# Altium footprint library sucaiku.PcbLib: 28 footprints (part 2 of 2)
Each footprint in its own frame and in the unit in brackets; x right, y up, seen from the top. Pads: shape width x height; smd on the part's side, far side on the other; paste and mask are expansions set on the pad; w line width, h text height; cw(c..) or ccw(c..) is an arc to the next point about the centre after c.
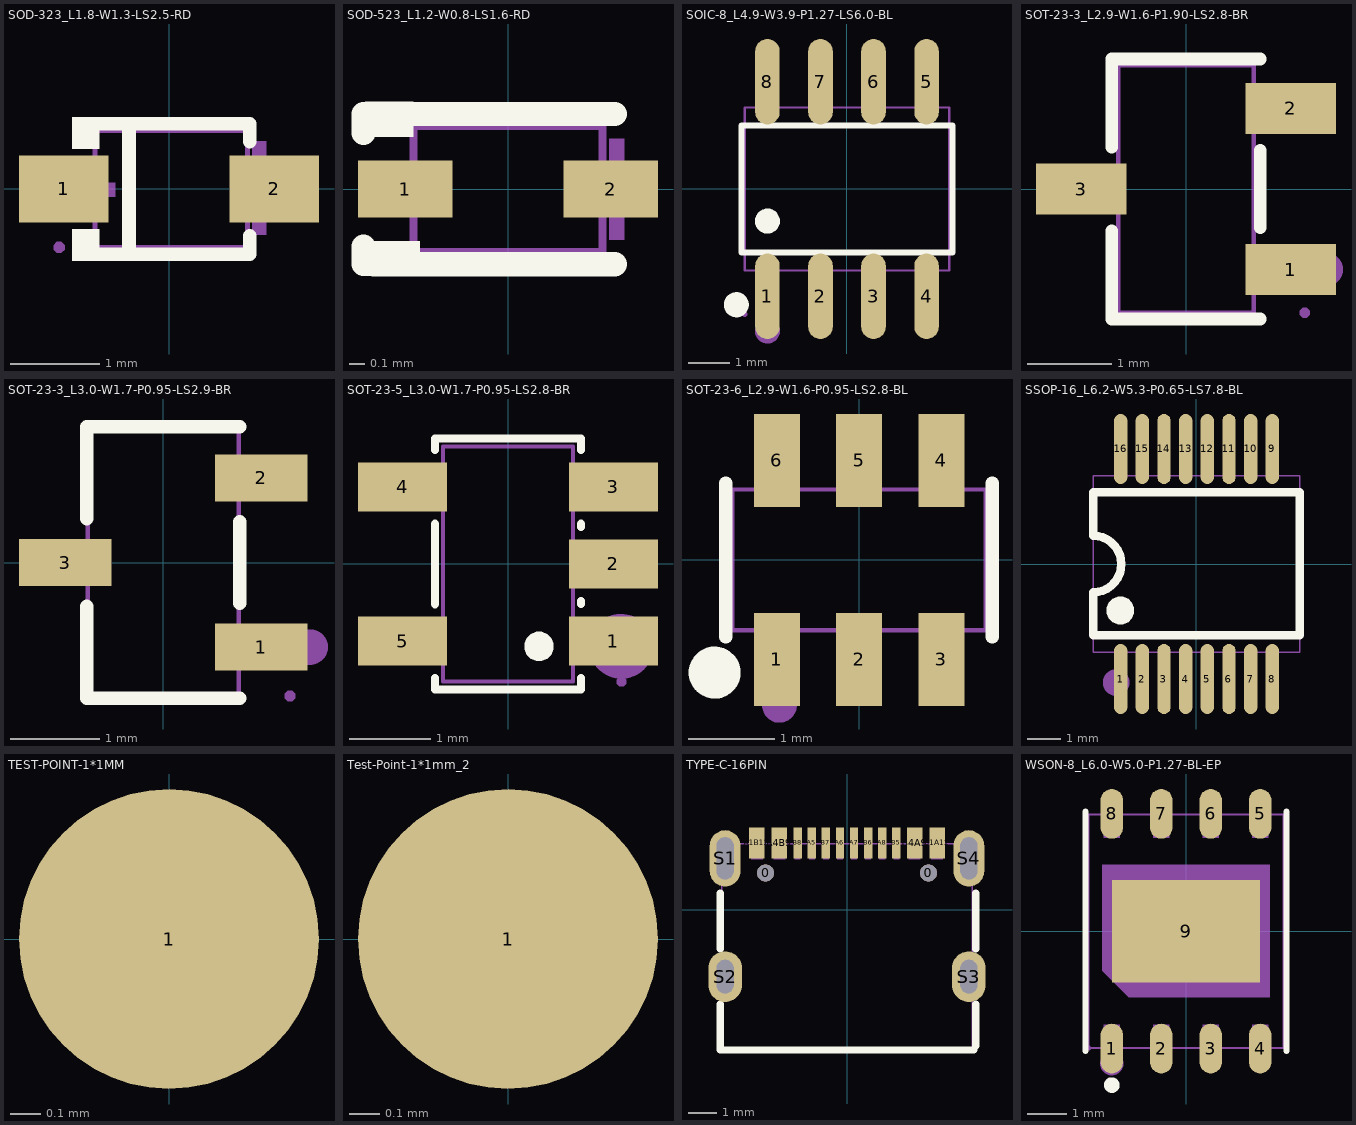
[diagram p1: the footprints below, top view; thin cyan lines are the x and y axes]

## SOD-323_L1.8-W1.3-LS2.5-RD [mm]
pads (2):
  rect 1x0.75 smd paste+0.051: 1(-1.173,0) 2(1.173,0)
Top Overlay:
  region: -0.775,-0.802 -0.775,-0.45 -1.08,-0.45 -1.08,-0.802
  region: -0.775,0.802 -0.775,0.45 -1.08,0.45 -1.08,0.802
  lines w0.152: -0.851,-0.726 0.901,-0.726 0.901,-0.52 ; -0.851,0.726 0.901,0.726 0.901,0.53 ; -0.447,-0.726 -0.447,0.726
Mechanical 6:
  region: 1.083,0.53 1.083,-0.51 0.927,-0.51 0.927,0.53
  region: 1.315,0.09 1.315,-0.066 0.691,-0.066 0.691,0.09
  region: -1.225,0.07 -1.225,-0.086 -0.601,-0.086 -0.601,0.07
Mechanical 7:
  lines w0.051: -0.825,-0.65 -0.825,0.65 0.875,0.65 0.875,-0.65 -0.825,-0.65
Mechanical 8:
  region: -1.165,-0.65 -1.165,-0.675 -1.2,-0.71 -1.25,-0.71 -1.285,-0.675 -1.285,-0.65 -1.285,-0.625 -1.25,-0.59 -1.2,-0.59 -1.165,-0.625 -1.165,-0.65
Mechanical 9:
  region: -0.925,0.16 -0.925,-0.16 -1.225,-0.16 -1.225,0.16
  region: 1.275,0.16 1.275,-0.16 0.975,-0.16 0.975,0.16
Mechanical 10:
  region: -0.815,0.16 -0.815,-0.16 -0.935,-0.16 -0.935,0.16
  region: 0.985,0.16 0.985,-0.16 0.865,-0.16 0.865,0.16

## SOD-523_L1.2-W0.8-LS1.6-RD [mm]
pads (2):
  rect 0.6x0.36 smd paste+0.051: 1(-0.65,0) 2(0.65,0)
Top Overlay:
  region: -0.6,0.552 -0.6,0.332 -0.905,0.332 -0.905,0.552
  region: -0.56,-0.552 -0.56,-0.332 -0.864,-0.332 -0.864,-0.552
  lines w0.152: -0.914,-0.363 -0.914,-0.476 -0.676,-0.476 0.676,-0.476 ; -0.914,0.356 -0.914,0.476 -0.676,0.476 0.676,0.476
Mechanical 6:
  region: -0.887,0.055 -0.887,-0.041 -0.503,-0.041 -0.503,0.055
  region: 0.88,0.048 0.88,-0.048 0.496,-0.048 0.496,0.048
  region: 0.736,0.32 0.736,-0.32 0.64,-0.32 0.64,0.32
Mechanical 7:
  lines w0.051: -0.6,-0.4 -0.6,0.4 0.6,0.4 0.6,-0.4 -0.6,-0.4
Mechanical 8:
  region: -0.74,-0.4 -0.74,-0.425 -0.775,-0.46 -0.825,-0.46 -0.86,-0.425 -0.86,-0.4 -0.86,-0.375 -0.825,-0.34 -0.775,-0.34 -0.74,-0.375 -0.74,-0.4
Mechanical 9:
  region: -0.4,-0.15 -0.8,-0.15 -0.8,0.15 -0.4,0.15
  region: 0.8,-0.15 0.4,-0.15 0.4,0.15 0.8,0.15

## SOIC-8_L4.9-W3.9-P1.27-LS6.0-BL [mm]
pads (8):
  oval 0.588x2.045 smd paste+0.051: 1(-1.905,-2.57) 2(-0.635,-2.57) 3(0.635,-2.57) 4(1.905,-2.57) 5(1.905,2.57) 6(0.635,2.57) 7(-0.635,2.57) 8(-1.905,2.57)
Top Overlay:
  circle w0.3: c-1.905,-0.769 r0.15
  circle w0.3: c-2.652,-2.772 r0.15
  lines w0.152: -2.526,-1.521 -2.526,1.521 2.526,1.521 2.526,-1.521 -2.526,-1.521
Mechanical 6:
  circle w0.3: c-1.905,-3.4 r0.15
Mechanical 7:
  lines w0.051: -2.45,-1.95 -2.45,1.95 2.45,1.95 2.45,-1.95 -2.45,-1.95
Mechanical 8:
  region: -2.39,-3 -2.39,-3.025 -2.425,-3.06 -2.475,-3.06 -2.51,-3.025 -2.51,-3 -2.51,-2.975 -2.475,-2.94 -2.425,-2.94 -2.39,-2.975 -2.39,-3
Mechanical 9:
  region: -2.115,-3 -2.115,-2.165 -1.695,-2.165 -1.695,-3
  region: -0.845,-3 -0.845,-2.165 -0.425,-2.165 -0.425,-3
  region: 0.425,-3 0.425,-2.165 0.845,-2.165 0.845,-3
  region: 1.695,-3 1.695,-2.165 2.115,-2.165 2.115,-3
  region: -2.115,3 -2.115,2.165 -1.695,2.165 -1.695,3
  region: -0.845,3 -0.845,2.165 -0.425,2.165 -0.425,3
  region: 0.425,3 0.425,2.165 0.845,2.165 0.845,3
  region: 1.695,3 1.695,2.165 2.115,2.165 2.115,3
Mechanical 10:
  region: -2.115,-2.175 -2.115,-1.94 -1.695,-1.94 -1.695,-2.175
  region: -0.845,-2.175 -0.845,-1.94 -0.425,-1.94 -0.425,-2.175
  region: 0.425,-2.175 0.425,-1.94 0.845,-1.94 0.845,-2.175
  region: 1.695,-2.175 1.695,-1.94 2.115,-1.94 2.115,-2.175
  region: -2.115,2.175 -2.115,1.94 -1.695,1.94 -1.695,2.175
  region: -0.845,2.175 -0.845,1.94 -0.425,1.94 -0.425,2.175
  region: 0.425,2.175 0.425,1.94 0.845,1.94 0.845,2.175
  region: 1.695,2.175 1.695,1.94 2.115,1.94 2.115,2.175

## SOT-23-3_L2.9-W1.6-P1.90-LS2.8-BR [mm]
pads (3):
  rect 1.07x0.6 smd paste+0.051: 1(1.235,-0.95) 2(1.235,0.95) 3(-1.235,0)
Top Overlay:
  lines w0.152: -0.876,-0.495 -0.876,-1.536 0.876,-1.536 ; -0.876,0.495 -0.876,1.536 0.876,1.536 ; 0.876,-0.455 0.876,0.455
Mechanical 6:
  circle w0.2: c1.651,-0.95 r0.1
Mechanical 7:
  lines w0.051: -0.8,-1.46 0.8,-1.46 0.8,1.46 -0.8,1.46 -0.8,-1.46
Mechanical 8:
  region: 1.46,-1.46 1.46,-1.485 1.425,-1.52 1.375,-1.52 1.34,-1.485 1.34,-1.46 1.34,-1.435 1.375,-1.4 1.425,-1.4 1.46,-1.435 1.46,-1.46
Mechanical 9:
  region: -0.95,-0.2 -0.95,0.2 -1.4,0.2 -1.4,-0.2
  region: 0.95,0.75 0.95,1.15 1.4,1.15 1.4,0.75
  region: 0.95,-1.15 0.95,-0.75 1.4,-0.75 1.4,-1.15
Mechanical 10:
  region: -0.96,-0.2 -0.96,0.2 -0.79,0.2 -0.79,-0.2
  region: 0.79,0.75 0.79,1.15 0.96,1.15 0.96,0.75
  region: 0.79,-1.15 0.79,-0.75 0.96,-0.75 0.96,-1.15

## SOT-23-3_L3.0-W1.7-P0.95-LS2.9-BR [mm]
pads (3):
  rect 1.037x0.532 smd paste+0.051: 1(1.101,-0.95) 2(1.101,0.95) 3(-1.101,0)
Top Overlay:
  lines w0.152: -0.859,-0.495 -0.859,-1.526 0.859,-1.526 ; -0.859,0.495 -0.859,1.526 0.859,1.526 ; 0.859,-0.455 0.859,0.455
Mechanical 6:
  circle w0.2: c1.65,-0.95 r0.1
Mechanical 7:
  lines w0.051: -0.85,-1.5 -0.85,1.5 0.85,1.5 0.85,-1.5 -0.85,-1.5
Mechanical 8:
  region: 1.485,-1.5 1.485,-1.525 1.45,-1.56 1.4,-1.56 1.365,-1.525 1.365,-1.5 1.365,-1.475 1.4,-1.44 1.45,-1.44 1.485,-1.475 1.485,-1.5
Mechanical 9:
  region: 1,-1.137 1,-0.762 1.425,-0.762 1.425,-1.137
  region: 1,0.762 1,1.137 1.425,1.137 1.425,0.762
  region: -1.425,-0.187 -1.425,0.188 -1,0.188 -1,-0.188
Mechanical 10:
  region: 0.815,-1.137 0.815,-0.762 1.01,-0.762 1.01,-1.137
  region: 0.815,0.762 0.815,1.137 1.01,1.137 1.01,0.762
  region: -1.01,-0.188 -1.01,0.188 -0.815,0.188 -0.815,-0.188

## SOT-23-5_L3.0-W1.7-P0.95-LS2.8-BR [mm]
pads (5):
  rect 1.1x0.6 smd paste+0.051: 1(1.3,-0.95) 2(1.3,0) 3(1.3,0.95) 4(-1.3,0.95) 5(-1.3,-0.95)
Top Overlay:
  region: 0.204,-1.016 0.204,-0.981 0.23,-0.915 0.28,-0.864 0.346,-0.837 0.416,-0.837 0.482,-0.864 0.532,-0.915 0.558,-0.981 0.558,-1.016 0.558,-1.051 0.532,-1.117 0.482,-1.168 0.416,-1.195 0.346,-1.195 0.28,-1.168 0.23,-1.117 0.204,-1.051 0.204,-1.016
  lines w0.1: -0.9,-1.404 -0.9,-1.55 0.9,-1.55 0.9,-1.404 ; -0.9,-0.496 -0.9,0.496 ; -0.9,1.404 -0.9,1.55 0.9,1.55 0.9,1.404 ; 0.9,-0.496 0.9,-0.454 ; 0.9,0.454 0.9,0.496
Mechanical 6:
  circle w0.4: c1.397,-1.016 r0.2
Mechanical 7:
  lines w0.051: -0.8,-1.45 0.8,-1.45 0.8,1.45 -0.8,1.45 -0.8,-1.45
Mechanical 8:
  region: 1.46,-1.45 1.46,-1.475 1.425,-1.51 1.375,-1.51 1.34,-1.475 1.34,-1.45 1.34,-1.425 1.375,-1.39 1.425,-1.39 1.46,-1.425 1.46,-1.45
Mechanical 9:
  region: 0.95,-1.15 0.95,-0.75 1.4,-0.75 1.4,-1.15
  region: 0.95,-0.2 0.95,0.2 1.4,0.2 1.4,-0.2
  region: 0.95,0.75 0.95,1.15 1.4,1.15 1.4,0.75
  region: -1.4,0.75 -1.4,1.15 -0.95,1.15 -0.95,0.75
  region: -1.4,-1.15 -1.4,-0.75 -0.95,-0.75 -0.95,-1.15
Mechanical 10:
  region: 0.79,-1.15 0.79,-0.75 0.96,-0.75 0.96,-1.15
  region: 0.79,-0.2 0.79,0.2 0.96,0.2 0.96,-0.2
  region: 0.79,0.75 0.79,1.15 0.96,1.15 0.96,0.75
  region: -0.96,0.75 -0.96,1.15 -0.79,1.15 -0.79,0.75
  region: -0.96,-1.15 -0.96,-0.75 -0.79,-0.75 -0.79,-1.15

## SOT-23-6_L2.9-W1.6-P0.95-LS2.8-BL [mm]
pads (6):
  rect 0.532x1.072 smd paste+0.051: 1(-0.95,-1.149) 2(0,-1.149) 3(0.95,-1.149) 4(0.95,1.149) 5(0,1.149) 6(-0.95,1.149)
Top Overlay:
  circle w0.3: c-1.668,-1.301 r0.15
  lines w0.152: -1.539,-0.889 -1.539,0.889 ; 1.539,-0.889 1.539,0.889
Mechanical 6:
  circle w0.2: c-0.92,-1.68 r0.1
Mechanical 7:
  lines w0.051: -1.463,-0.813 1.463,-0.813 1.463,0.813 -1.463,0.813 -1.463,-0.813
Mechanical 8:
  region: -1.403,-1.4 -1.403,-1.425 -1.438,-1.46 -1.488,-1.46 -1.523,-1.425 -1.523,-1.4 -1.523,-1.375 -1.488,-1.34 -1.438,-1.34 -1.403,-1.375 -1.403,-1.4
Mechanical 9:
  region: -1.165,-0.925 -0.735,-0.925 -0.735,-1.4 -1.165,-1.4
  region: -0.215,-0.925 0.215,-0.925 0.215,-1.4 -0.215,-1.4
  region: 0.735,-0.925 1.165,-0.925 1.165,-1.4 0.735,-1.4
  region: 0.735,0.925 1.165,0.925 1.165,1.4 0.735,1.4
  region: -0.215,0.925 0.215,0.925 0.215,1.4 -0.215,1.4
  region: -1.165,0.925 -0.735,0.925 -0.735,1.4 -1.165,1.4
Mechanical 10:
  region: -1.165,-0.803 -0.735,-0.803 -0.735,-0.935 -1.165,-0.935
  region: -0.215,-0.803 0.215,-0.803 0.215,-0.935 -0.215,-0.935
  region: 0.735,-0.803 1.165,-0.803 1.165,-0.935 0.735,-0.935
  region: 0.735,0.935 1.165,0.935 1.165,0.803 0.735,0.803
  region: -0.215,0.935 0.215,0.935 0.215,0.803 -0.215,0.803
  region: -1.165,0.935 -0.735,0.935 -0.735,0.803 -1.165,0.803

## SSOP-16_L6.2-W5.3-P0.65-LS7.8-BL [mm]
pads (16):
  oval 0.4x2.1 smd paste+0.051: 1(-2.275,-3.45) 2(-1.625,-3.45) 3(-0.975,-3.45) 4(-0.325,-3.45) 5(0.325,-3.45) 6(0.975,-3.45) 7(1.625,-3.45) 8(2.275,-3.45) 9(2.275,3.45) 10(1.625,3.45) 11(0.975,3.45) 12(0.325,3.45) 13(-0.325,3.45) 14(-0.975,3.45) 15(-1.625,3.45) 16(-2.275,3.45)
Top Overlay:
  region: -2.697,-1.397 -2.697,-1.315 -2.634,-1.164 -2.519,-1.049 -2.368,-0.986 -2.204,-0.986 -2.053,-1.049 -1.938,-1.164 -1.875,-1.315 -1.875,-1.397 -1.875,-1.479 -1.938,-1.63 -2.053,-1.745 -2.204,-1.808 -2.368,-1.808 -2.519,-1.745 -2.634,-1.63 -2.697,-1.479 -2.697,-1.397
  lines w0.254: -3.1,-2.14 3.1,-2.14 3.1,2.153 -3.1,2.153 -3.1,0.85 cw(c-3.104,0) -3.099,-0.851 -3.099,-2.14
Mechanical 6:
  circle w0.4: c-2.413,-3.556 r0.2
Mechanical 7:
  lines w0.051: -3.1,-2.65 -3.1,2.65 3.1,2.65 3.1,-2.65 -3.1,-2.65
Mechanical 8:
  region: -2.099,-1.524 -2.099,-1.549 -2.134,-1.584 -2.184,-1.584 -2.219,-1.549 -2.219,-1.524 -2.219,-1.499 -2.184,-1.464 -2.134,-1.464 -2.099,-1.499 -2.099,-1.524
Mechanical 9:
  region: 0.2,3.3 0.2,3.9 0.45,3.9 0.45,3.3
  region: 0.85,3.3 0.85,3.9 1.1,3.9 1.1,3.3
  region: 1.5,3.3 1.5,3.9 1.75,3.9 1.75,3.3
  region: 2.15,3.3 2.15,3.9 2.4,3.9 2.4,3.3
  region: -0.45,3.3 -0.45,3.9 -0.2,3.9 -0.2,3.3
  region: -1.1,3.3 -1.1,3.9 -0.85,3.9 -0.85,3.3
  region: -1.75,3.3 -1.75,3.9 -1.5,3.9 -1.5,3.3
  region: -2.4,-3.9 -2.4,-3.3 -2.15,-3.3 -2.15,-3.9
  region: -1.75,-3.9 -1.75,-3.3 -1.5,-3.3 -1.5,-3.9
  region: -1.1,-3.9 -1.1,-3.3 -0.85,-3.3 -0.85,-3.9
  region: -0.45,-3.9 -0.45,-3.3 -0.2,-3.3 -0.2,-3.9
  region: 0.2,-3.9 0.2,-3.3 0.45,-3.3 0.45,-3.9
  region: 0.85,-3.9 0.85,-3.3 1.1,-3.3 1.1,-3.9
  region: 1.5,-3.9 1.5,-3.3 1.75,-3.3 1.75,-3.9
  region: 2.15,-3.9 2.15,-3.3 2.4,-3.3 2.4,-3.9
  region: -2.4,3.3 -2.4,3.9 -2.15,3.9 -2.15,3.3
Mechanical 10:
  region: 0.2,2.64 0.2,3.31 0.45,3.31 0.45,2.64
  region: 0.85,2.64 0.85,3.31 1.1,3.31 1.1,2.64
  region: 1.5,2.64 1.5,3.31 1.75,3.31 1.75,2.64
  region: 2.15,2.64 2.15,3.31 2.4,3.31 2.4,2.64
  region: -0.45,2.64 -0.45,3.31 -0.2,3.31 -0.2,2.64
  region: -1.1,2.64 -1.1,3.31 -0.85,3.31 -0.85,2.64
  region: -1.75,2.64 -1.75,3.31 -1.5,3.31 -1.5,2.64
  region: -2.4,-3.31 -2.4,-2.64 -2.15,-2.64 -2.15,-3.31
  region: -1.75,-3.31 -1.75,-2.64 -1.5,-2.64 -1.5,-3.31
  region: -1.1,-3.31 -1.1,-2.64 -0.85,-2.64 -0.85,-3.31
  region: -0.45,-3.31 -0.45,-2.64 -0.2,-2.64 -0.2,-3.31
  region: 0.2,-3.31 0.2,-2.64 0.45,-2.64 0.45,-3.31
  region: 0.85,-3.31 0.85,-2.64 1.1,-2.64 1.1,-3.31
  region: 1.5,-3.31 1.5,-2.64 1.75,-2.64 1.75,-3.31
  region: 2.15,-3.31 2.15,-2.64 2.4,-2.64 2.4,-3.31
  region: -2.4,2.64 -2.4,3.31 -2.15,3.31 -2.15,2.64

## TEST-POINT-1*1MM [mm]
pads (1):
  round 1 smd paste+0 mask+0: 1(0,0)

## Test-Point-1*1mm_2 [mm]
pads (1):
  round 1 smd paste+0 mask+0: 1(0,0)

## TYPE-C-16PIN [mil]
pads (18):
  round 23.62 hole 23.62 unplated mask+0: 0(-113.82,51.42) 0(113.82,51.42)
  rect 21.7x43.3 smd paste-3937 mask+2: A1B12(-126,93.5) A4B9(-94.5,93.5) B1A12(126,93.5) B4A9(94.5,93.5)
  rect 11.8x43.3 smd paste-3937 mask+2: A5(-49.2,93.5) A6(-9.8,93.5) A7(9.8,93.5) A8(49.2,93.5) B5(68.9,93.5) B6(29.5,93.5) B7(-29.5,93.5) B8(-68.9,93.5)
  oval 43.3x78.7 hole 23.6 slot 59.1 at 90 deg paste-99999 mask+2: S1(-170.3,71.8) S4(170.3,71.8)
  oval 47.2x70.9 hole 23.6 slot 47.2 at 90 deg paste-99999 mask+2: S2(-170.3,-93.5) S3(170.3,-93.5)
Top Overlay:
  lines w10: -177.2,-132.1 -177.2,-195.9 177.2,-195.9 ; -177.2,-54.9 -177.2,23.4 ; 180,-190 180,-132 ; 180,-55 180,23.5
Top Paste:
  drawing of 16 lines, arcs and shapes, not listed
Mechanical 6:
  lines w2: -175.2,-196.9 175.2,-196.9 175.2,92.5 -175.2,92.5 -175.2,-196.9
Mechanical 8:
  region: -172.8,104.3 -172.8,103.31 -174.21,101.9 -176.19,101.9 -177.6,103.31 -177.6,104.3 -177.6,105.29 -176.19,106.7 -174.21,106.7 -172.8,105.29
Mechanical 9:
  region: 165.4,-79.7 175.2,-79.7 175.2,-107.3 165.4,-107.3
  region: -175.2,-79.7 -165.4,-79.7 -165.4,-107.3 -175.2,-107.3
  region: 165.4,92.5 175.2,92.5 175.2,49.2 165.4,49.2
  region: -175.2,92.5 -165.4,92.5 -165.4,49.2 -175.2,49.2
  region: 118.1,104.3 133.9,104.3 133.9,70.8 118.1,70.8
  region: 86.6,104.3 102.4,104.3 102.4,70.8 86.6,70.8
  region: -102.4,104.3 -86.6,104.3 -86.6,70.8 -102.4,70.8
  region: -133.9,104.3 -118.1,104.3 -118.1,70.8 -133.9,70.8
  region: 65,104.3 72.8,104.3 72.8,70.8 65,70.8
  region: 45.3,104.3 53.2,104.3 53.2,70.8 45.3,70.8
  region: 25.6,104.3 33.5,104.3 33.5,70.8 25.6,70.8
  region: 5.9,104.3 13.8,104.3 13.8,70.8 5.9,70.8
  region: -13.8,104.3 -5.9,104.3 -5.9,70.8 -13.8,70.8
  region: -53.1,104.3 -45.3,104.3 -45.3,70.8 -53.1,70.8
  region: -33.5,104.3 -25.6,104.3 -25.6,70.8 -33.5,70.8
  region: -72.8,104.3 -65,104.3 -65,70.8 -72.8,70.8

## WSON-8_L6.0-W5.0-P1.27-BL-EP [mm]
pads (9):
  oval 0.581x1.276 smd paste+0.051: 1(-1.905,-3.013) 2(-0.635,-3.013) 3(0.635,-3.013) 4(1.905,-3.013) 5(1.905,3.013) 6(0.635,3.013) 7(-0.635,3.013) 8(-1.905,3.013)
  rect 3.81x2.638 smd paste+0.051: 9(0,0)
Top Overlay:
  circle w0.2: c-1.905,-3.95 r0.1
  lines w0.152: -2.576,3.076 -2.576,-3.076 ; 2.576,-3.076 2.576,3.076
Mechanical 6:
  circle w0.3: c-1.905,-3.4 r0.15
Mechanical 7:
  lines w0.051: -2.5,3 2.5,3 2.5,-3 -2.5,-3 -2.5,3
Mechanical 8:
  region: -2.44,-3 -2.44,-3.025 -2.475,-3.06 -2.525,-3.06 -2.56,-3.025 -2.56,-3 -2.56,-2.975 -2.525,-2.94 -2.475,-2.94 -2.44,-2.975 -2.44,-3
Mechanical 9:
  region: -2.15,-1.02 -2.15,1.7 2.15,1.7 2.15,-1.7 -1.47,-1.7
  region: 1.698,3 1.698,2.4 2.112,2.4 2.112,3
  region: 0.428,3 0.428,2.4 0.842,2.4 0.842,3
  region: -0.842,3 -0.842,2.4 -0.428,2.4 -0.428,3
  region: -2.112,3 -2.112,2.4 -1.698,2.4 -1.698,3
  region: 1.698,-3 1.698,-2.4 2.112,-2.4 2.112,-3
  region: 0.428,-3 0.428,-2.4 0.842,-2.4 0.842,-3
  region: -0.842,-3 -0.842,-2.4 -0.428,-2.4 -0.428,-3
  region: -2.112,-3 -2.112,-2.4 -1.698,-2.4 -1.698,-3